# EAGLE library part MCP1665T-E/MRA (library ruark2)
Boost Switching Regulator IC Positive Adjustable 2.8V 1 Output 1A 10-VFQFN Exposed Pad
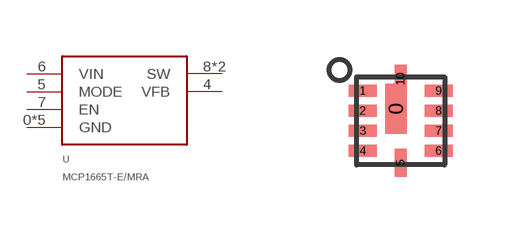
[diagram p162: symbol with the pads of 2X2VQFN_MCP1665; footprint 2X2VQFN_MCP1665]

Designator prefix U

## MCP1665T-E/MRA (PARTNO: MCP1665T-E/MRACT-ND)  [2X2VQFN_MCP1665]
0  GND
1  GND
2  GND
3  GND
4  VFB
5  MODE
6  VIN
7  EN
8  SW
9  SW
10  GND

## Footprint 2X2VQFN_MCP1665 (pad centres in mm)
smd 0.53 x 1.25: 0 -0.115,0.3
smd 0.7 x 0.3: 1 -0.95,0.75; 2 -0.95,0.25; 3 -0.95,-0.25; 4 -0.95,-0.75; 6 0.95,-0.75; 7 0.95,-0.25; 8 0.95,0.25; 9 0.95,0.75
smd 0.3 x 0.7: 5 0,-1.05; 10 0,1.05